# EAGLE library part TJA1027 (library simpa)
TJA1027T SOIC 8PIN LIN TRANSCIEVER
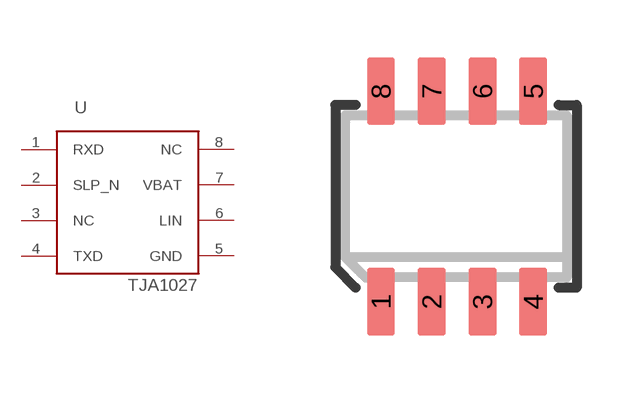
[diagram p0: symbol with the pads of SOT93-1; footprint SOT93-1]

Designator prefix U

## TJA1027T  [SOT93-1]
1  RXD  pas
2  SLP_N  pas
3  NC  pas
4  TXD  pas
5  GND  pas
6  LIN  pas
7  VBAT  pas
8  NC  pas

## Footprint SOT93-1 (pad centres in mm)
smd 0.7 x 1.7: 1 -1.905,-2.63; 2 -0.635,-2.635; 3 0.635,-2.635; 4 1.905,-2.635; 5 1.905,2.635; 6 0.635,2.635; 7 -0.635,2.635; 8 -1.905,2.635